# EAGLE library part IC-TP4056 (library ncat)
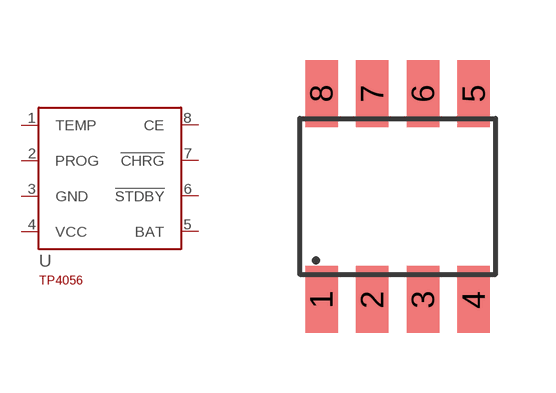
[diagram p2: symbol with the pads of IC-SOT23-8; footprint IC-SOT23-8]

Designator prefix -

## IC-TP4056  [IC-SOT23-8]
1  TEMP
2  PROG
3  GND
4  VCC
5  BAT
6  !STDBY
7  !CHRG
8  CE

## Footprint IC-SOT23-8 (pad centres in mm)
smd 0.813 x 1.676: 1 -1.905,-2.58; 2 -0.635,-2.58; 3 0.635,-2.58; 4 1.905,-2.58; 5 1.905,2.58; 6 0.635,2.58; 7 -0.635,2.58; 8 -1.905,2.58